# EAGLE library part AT28HC64BF-12SU-T (library Memory)
IC EEPROM 64K PARALLEL 28SOIC Manufacturer's datasheet <http://ww1.microchip.com/downloads/en/DeviceDoc/doc3648.pdf>
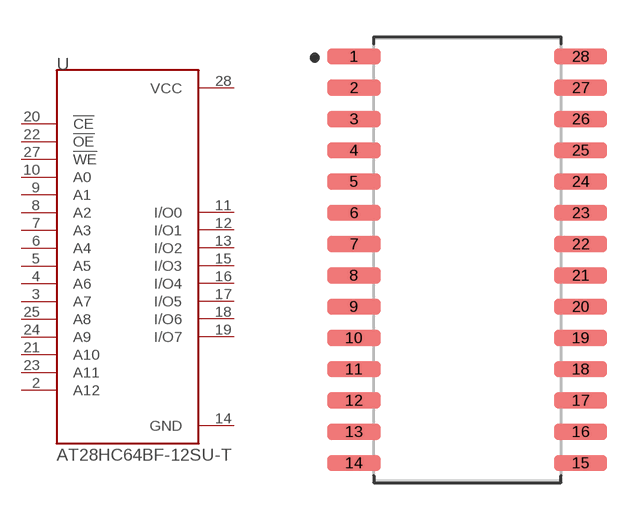
[diagram p12: symbol with the pads of SOIC-28; footprint SOIC-28]

Designator prefix U

## AT28HC64BF-12SU-T (CREATED_BY: PCBLayout.com; DIGIKEY_PART_NUMBER: AT28HC64BF-12SU-TTR-ND; MANUFACTURER: Microchip Technology; MPN: AT28HC64BF-12SU-T; PACKAGE: 28-SOIC)  [SOIC-28]
2  A12  in
3  A7  in
4  A6  in
5  A5  in
6  A4  in
7  A3  in
8  A2  in
9  A1  in
10  A0  in
11  I/O0
12  I/O1
13  I/O2
14  GND  pwr
15  I/O3
16  I/O4
17  I/O5
18  I/O6
19  I/O7
20  !CE  in
21  A10  in
22  !OE  in
23  A11  in
24  A9  in
25  A8  in
27  !WE  in
28  VCC  pwr

## Footprint SOIC-28 (pad centres in mm)
Small Outline IC (SOIC), 1.27 mm pitch; 28 pin, 17.90 mm L X 7.50 mm W X 2.65 mm H body PCB Libraries Packages
smd 2.15 x 0.66: 1 -4.605,8.255; 2 -4.605,6.985; 3 -4.605,5.715; 4 -4.605,4.445; 5 -4.605,3.175; 6 -4.605,1.905; 7 -4.605,0.635; 8 -4.605,-0.635; 9 -4.605,-1.905; 10 -4.605,-3.175; 11 -4.605,-4.445; 12 -4.605,-5.715; 13 -4.605,-6.985; 14 -4.605,-8.255; 15 4.605,-8.255; 16 4.605,-6.985; 17 4.605,-5.715; 18 4.605,-4.445; 19 4.605,-3.175; 20 4.605,-1.905; 21 4.605,-0.635; 22 4.605,0.635; 23 4.605,1.905; 24 4.605,3.175; 25 4.605,4.445; 26 4.605,5.715; 27 4.605,6.985; 28 4.605,8.255